# Altium schematic symbol library Inductance.SchLib: 1 symbol
Pins are listed as number, name and electrical type; pins without a type are passive.

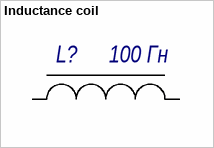
[diagram p0: symbol Inductance coil]

## Inductance coil
designator L?  value 100 Гн
pins: 1, 2